# Altium schematic symbol library SparkFun-Boards.SCHLIB: 67 symbols (part 2 of 2)
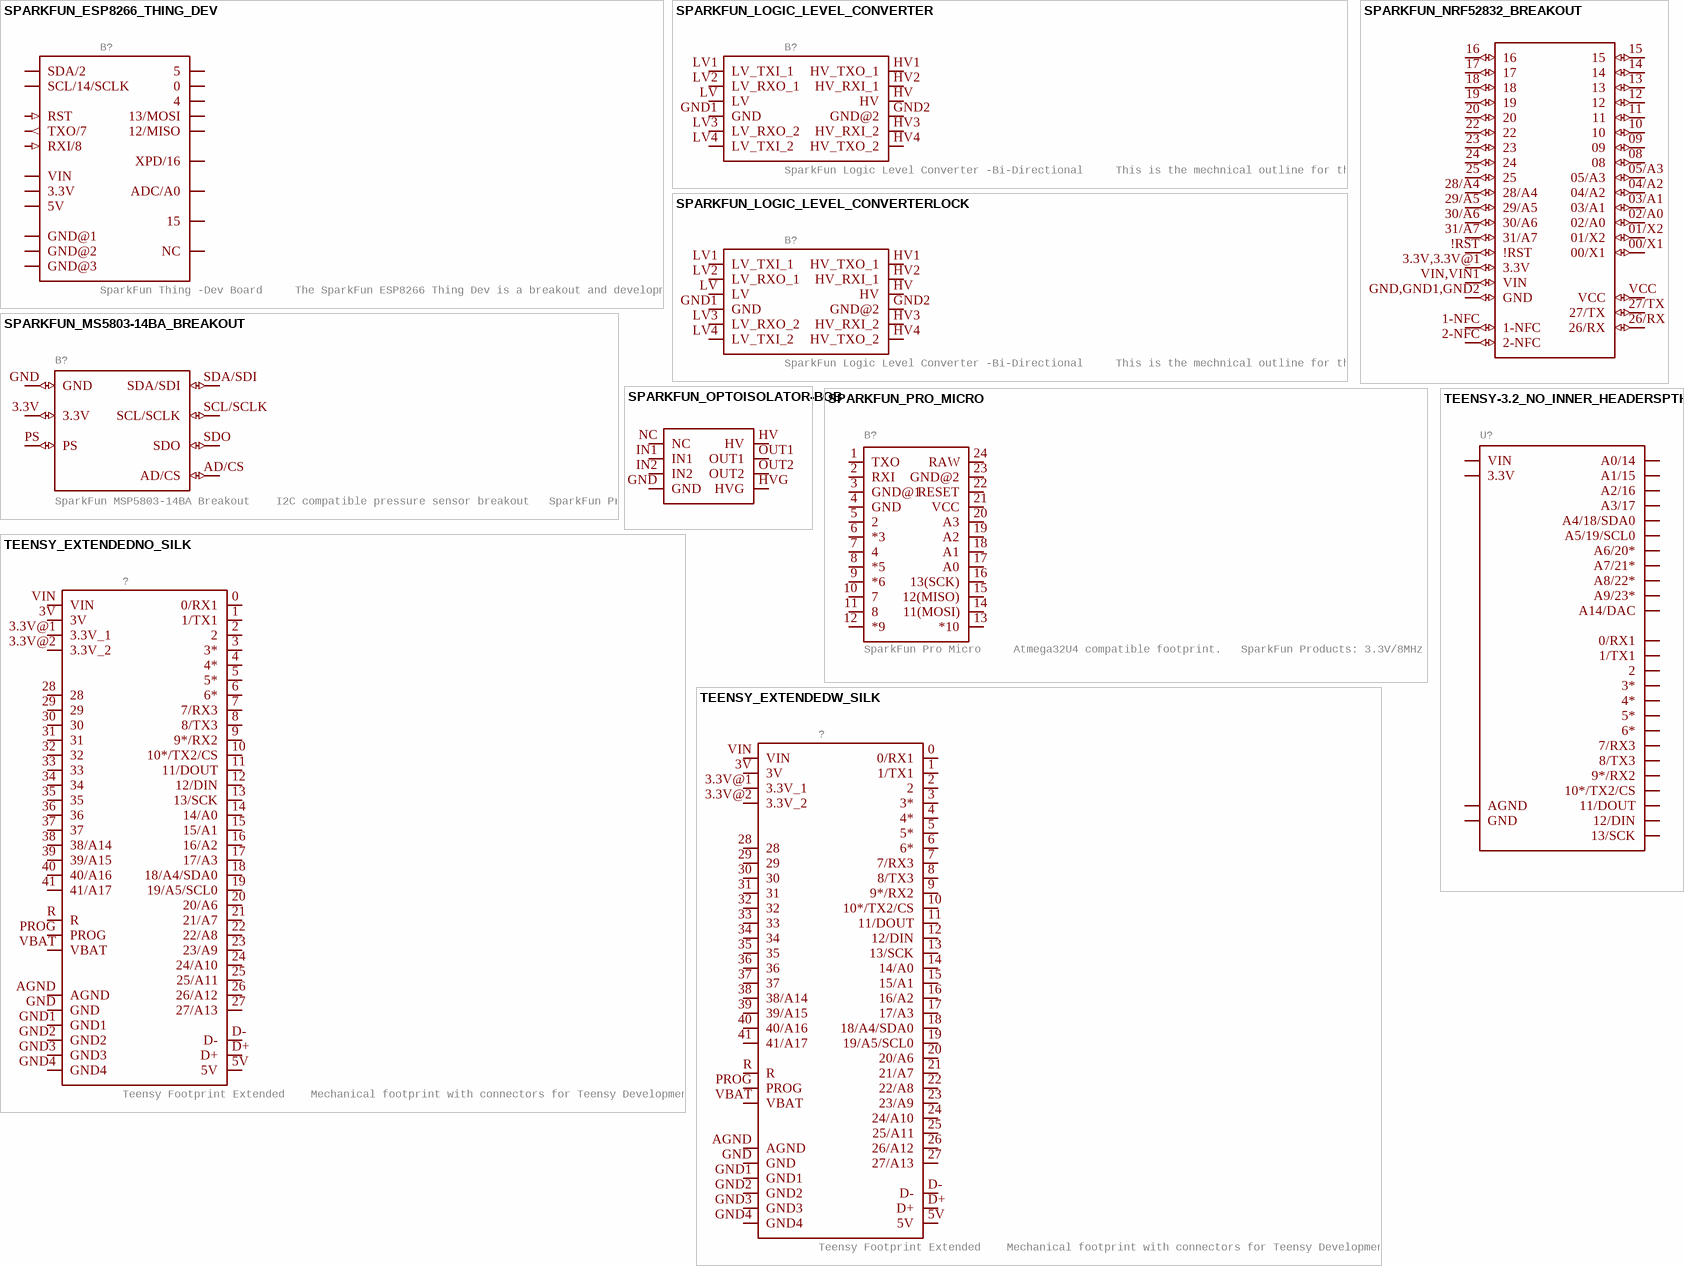
[diagram p7: symbols SPARKFUN_ESP8266_THING_DEV to TEENSY_EXTENDEDW_SILK]

## TEENSY_EXTENDEDNO_SILK
designator ?, comment Teensy Footprint Extended    Mechanical footprint with connectors for Teensy Development Board with ARM Cortex.   SparkFun Products:
GateName_1: G$1; SymbolName_1: TEENSY_EXTENDED; DeviceName: NO_SILK; LibraryName: SparkFun-Boards; DeviceSetName: TEENSY_EXTENDED; Package: TEENSY_EXTENDED_NO_SILK
footprint TEENSY_EXTENDED_NO_SILK
pins: 0 0/RX1 (io), 1 1/TX1 (io), 2 (io), 3 3* (io), 3.3V@1 3.3V_1 (power), 3.3V@2 3.3V_2 (power), 3V (power), 4 4* (io), 5 5* (io), 5V (power), 6 6* (io), 7 7/RX3 (io), 8 8/TX3 (io), 9 9*/RX2 (io), 10 10*/TX2/CS (io), 11 11/DOUT (io), 12 12/DIN (io), 13 13/SCK (io), 14 14/A0 (io), 15 15/A1 (io), 16 16/A2 (io), 17 17/A3 (io), 18 18/A4/SDA0 (io), 19 19/A5/SCL0 (io), 20 20/A6 (io), 21 21/A7 (io), 22 22/A8 (io), 23 23/A9 (io), 24 24/A10 (io), 25 25/A11 (io), 26 26/A12 (io), 27 27/A13 (io), 28 (io), 29 (io), 30 (io), 31 (io), 32 (io), 33 (io), 34 (io), 35 (io), 36 (io), 37 (io), 38 38/A14 (io), 39 39/A15 (io), 40 40/A16 (io), 41 41/A17 (io), AGND (power), D+ (power), D- (power), GND (power), GND1 (power), GND2 (power), GND3 (power), GND4 (io), PROG (io), R (io), VBAT (power), VIN (power)

## TEENSY_EXTENDEDW_SILK
designator ?, comment Teensy Footprint Extended    Mechanical footprint with connectors for Teensy Development Board with ARM Cortex.   SparkFun Products:
GateName_1: G$1; SymbolName_1: TEENSY_EXTENDED; DeviceName: W_SILK; LibraryName: SparkFun-Boards; DeviceSetName: TEENSY_EXTENDED; Package: TEENSY_EXTENDED
footprint TEENSY_EXTENDED
pins: 0 0/RX1 (io), 1 1/TX1 (io), 2 (io), 3 3* (io), 3.3V@1 3.3V_1 (power), 3.3V@2 3.3V_2 (power), 3V (power), 4 4* (io), 5 5* (io), 5V (power), 6 6* (io), 7 7/RX3 (io), 8 8/TX3 (io), 9 9*/RX2 (io), 10 10*/TX2/CS (io), 11 11/DOUT (io), 12 12/DIN (io), 13 13/SCK (io), 14 14/A0 (io), 15 15/A1 (io), 16 16/A2 (io), 17 17/A3 (io), 18 18/A4/SDA0 (io), 19 19/A5/SCL0 (io), 20 20/A6 (io), 21 21/A7 (io), 22 22/A8 (io), 23 23/A9 (io), 24 24/A10 (io), 25 25/A11 (io), 26 26/A12 (io), 27 27/A13 (io), 28 (io), 29 (io), 30 (io), 31 (io), 32 (io), 33 (io), 34 (io), 35 (io), 36 (io), 37 (io), 38 38/A14 (io), 39 39/A15 (io), 40 40/A16 (io), 41 41/A17 (io), AGND (power), D+ (power), D- (power), GND (power), GND1 (power), GND2 (power), GND3 (power), GND4 (io), PROG (io), R (io), VBAT (power), VIN (power)

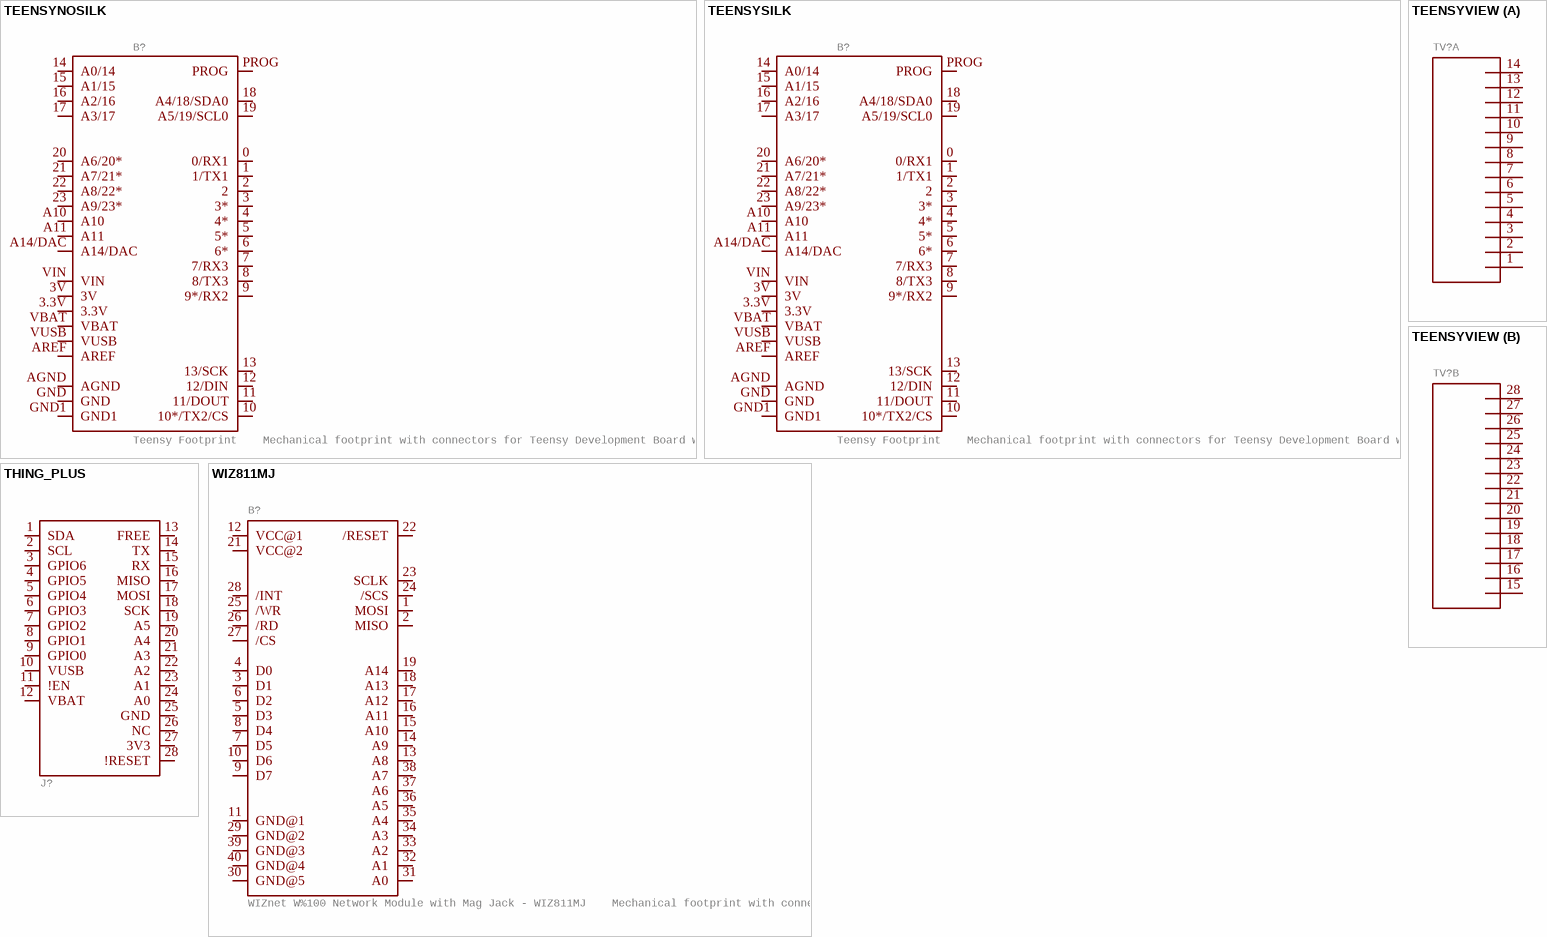
[diagram p6: symbols TEENSYNOSILK to WIZ811MJ]

## TEENSYNOSILK
designator B?, comment Teensy Footprint    Mechanical footprint with connectors for Teensy Development Board with ARM Cortex.   SparkFun Products:
GateName_1: G$1; DeviceName: NOSILK; SF_ID: DEV-12646; SymbolName_1: TEENSY; LibraryName: SparkFun-Boards; DeviceSetName: TEENSY; Package: TEENSY_NOSILK
footprint TEENSY_NOSILK
pins: 0 0/RX1 (io), 1 1/TX1 (io), 2 (io), 3 3* (io), 3.3V (power), 3V (power), 4 4* (io), 5 5* (io), 6 6* (io), 7 7/RX3 (io), 8 8/TX3 (io), 9 9*/RX2 (io), 10 10*/TX2/CS (io), 11 11/DOUT (io), 12 12/DIN (io), 13 13/SCK (io), 14 A0/14 (io), 15 A1/15 (io), 16 A2/16 (io), 17 A3/17 (io), 18 A4/18/SDA0 (io), 19 A5/19/SCL0 (io), 20 A6/20* (io), 21 A7/21* (io), 22 A8/22* (io), 23 A9/23* (io), A10 (io), A11 (io), A14/DAC (io), AGND (power), AREF (io), GND (power), GND1 (power), PROG (io), VBAT (power), VIN (power), VUSB (power)

## TEENSYSILK
designator B?, comment Teensy Footprint    Mechanical footprint with connectors for Teensy Development Board with ARM Cortex.   SparkFun Products:
GateName_1: G$1; DeviceName: SILK; SF_ID: DEV-12646; SymbolName_1: TEENSY; LibraryName: SparkFun-Boards; DeviceSetName: TEENSY; Package: TEENSY
footprint TEENSY
pins: 0 0/RX1 (io), 1 1/TX1 (io), 2 (io), 3 3* (io), 3.3V (power), 3V (power), 4 4* (io), 5 5* (io), 6 6* (io), 7 7/RX3 (io), 8 8/TX3 (io), 9 9*/RX2 (io), 10 10*/TX2/CS (io), 11 11/DOUT (io), 12 12/DIN (io), 13 13/SCK (io), 14 A0/14 (io), 15 A1/15 (io), 16 A2/16 (io), 17 A3/17 (io), 18 A4/18/SDA0 (io), 19 A5/19/SCL0 (io), 20 A6/20* (io), 21 A7/21* (io), 22 A8/22* (io), 23 A9/23* (io), A10 (io), A11 (io), A14/DAC (io), AGND (power), AREF (io), GND (power), GND1 (power), PROG (io), VBAT (power), VIN (power), VUSB (power)

## TEENSYVIEW
designator TV?
GateName_1: G1; SymbolName_1: TEENSYVIEW_1; GateName_2: G2; SymbolName_2: TEENSYVIEW_2; DeviceSetName: TEENSYVIEW; LibraryName: SparkFun-Boards; Package: TEENSYVIEW
footprint TEENSYVIEW
part A pins: 1, 2, 3, 4, 5, 6, 7, 8, 9, 10, 11, 12, 13, 14
part B pins: 15 1, 16 2, 17 3, 18 4, 19 5, 20 6, 21 7, 22 8, 23 9, 24 10, 25 11, 26 12, 27 13, 28 14

## THING_PLUS
designator J?
GateName_1: G$1; SymbolName_1: THING_PLUS; LibraryName: SparkFun-Boards; DeviceSetName: THING_PLUS; Package: THING_PLUS
footprint THING_PLUS
pins: 1 SDA (io), 2 SCL (io), 3 GPIO6 (io), 4 GPIO5 (io), 5 GPIO4 (io), 6 GPIO3 (io), 7 GPIO2 (io), 8 GPIO1 (io), 9 GPIO0 (io), 10 VUSB (io), 11 !EN (io), 12 VBAT (io), 13 FREE (io), 14 TX (io), 15 RX (io), 16 MISO (io), 17 MOSI (io), 18 SCK (io), 19 A5 (io), 20 A4 (io), 21 A3 (io), 22 A2 (io), 23 A1 (io), 24 A0 (io), 25 GND (io), 26 NC (io), 27 3V3 (io), 28 !RESET (io)

## WIZ811MJ
designator B?, comment WIZnet W%100 Network Module with Mag Jack - WIZ811MJ    Mechanical footprint with connectors for WIZ811MJ Breakout board with RJ45 connector.   SparkFun Products:
GateName_1: G$1; SymbolName_1: WIZ811MJ; LibraryName: SparkFun-Boards; DeviceSetName: WIZ811MJ; Package: WIZ811MJ
footprint WIZ811MJ
pins: 1 MOSI (io), 2 MISO (io), 3 D1 (io), 4 D0 (io), 5 D3 (io), 6 D2 (io), 7 D5 (io), 8 D4 (io), 9 D7 (io), 10 D6 (io), 11 GND@1 (io), 12 VCC@1 (io), 13 A8 (io), 14 A9 (io), 15 A10 (io), 16 A11 (io), 17 A12 (io), 18 A13 (io), 19 A14 (io), 21 VCC@2 (io), 22 /RESET (io), 23 SCLK (io), 24 /SCS (io), 25 /WR (io), 26 /RD (io), 27 /CS (io), 28 /INT (io), 29 GND@2 (io), 30 GND@5 (io), 31 A0 (io), 32 A1 (io), 33 A2 (io), 34 A3 (io), 35 A4 (io), 36 A5 (io), 37 A6 (io), 38 A7 (io), 39 GND@3 (io), 40 GND@4 (io)